# Altium footprint library std-smt.PcbLib: 52 footprints (part 1 of 4)
Each footprint in its own frame and in the unit in brackets; x right, y up, seen from the top. Pads: shape width x height; smd on the part's side, far side on the other; paste and mask are expansions set on the pad; w line width, h text height; cw(c..) or ccw(c..) is an arc to the next point about the centre after c.
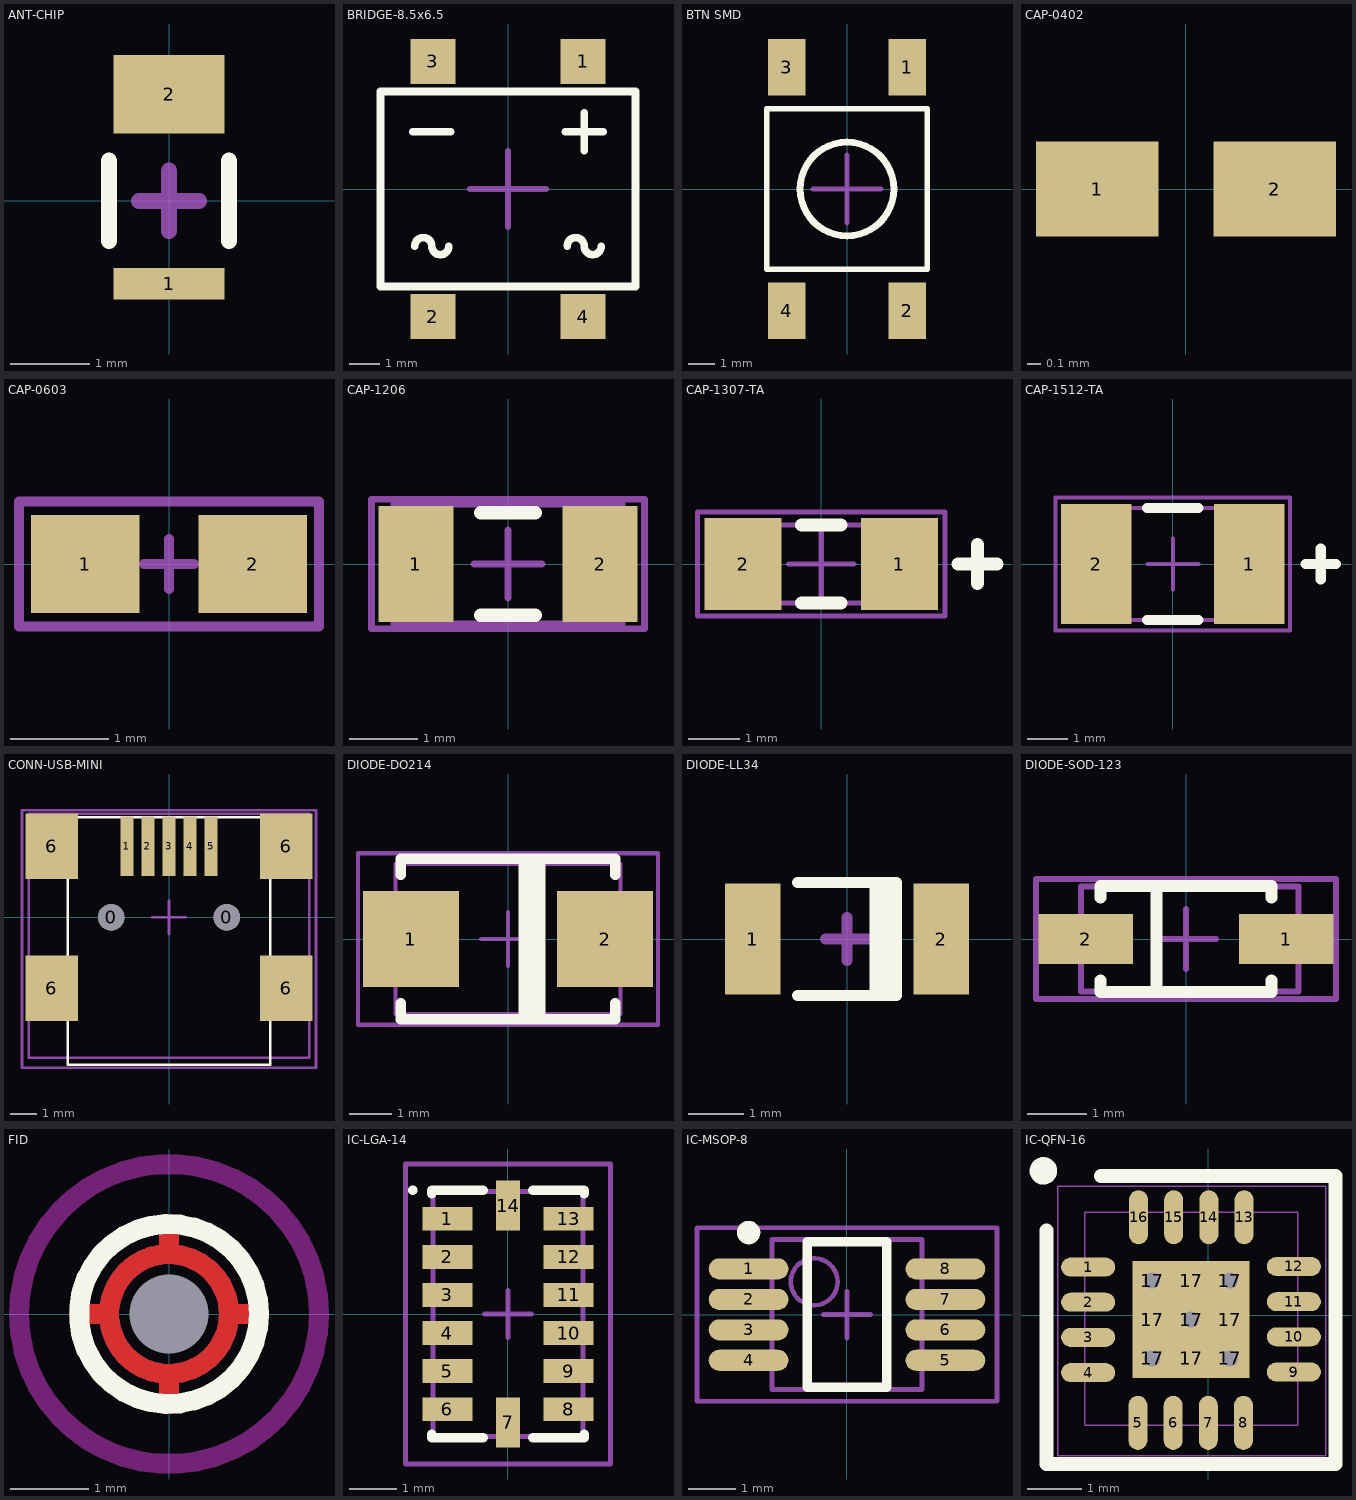
[diagram p0: the footprints below, top view; thin cyan lines are the x and y axes]

## ANT-CHIP [mm] "Antenna, 2012, 2 leads"
height 1
pads (2):
  rect 1.4x0.4 smd: 1(0,-1.05)
  rect 1.4x1 smd: 2(0,1.35)
Top Overlay:
  lines w0.203: -0.762,-0.508 -0.762,0.508 ; 0.762,-0.508 0.762,0.508
Mechanical 15:
  lines w0.203: -0.381,0 0.381,0 ; 0,-0.381 0,0.381
3D body "2012-antenna.step": height 0.6, standoff 0, extent -0.625,-1 0.625,1

## BRIDGE-8.5x6.5 [mm] "Bridge rectifier, SMD; body 8.5 x 6.5 mm; leads 5 mm pitch"
height 3.3
pads (4):
  rect 1.5x1.5 smd: 1(2.5,4.25) 2(-2.5,-4.25) 3(-2.5,4.25) 4(2.5,-4.25)
Top Overlay:
  lines w0.254: -3.175,1.905 -1.905,1.905 ; -3.108,-1.905 cw(c-2.824,-1.905) -2.54,-1.905 ccw(c-2.256,-1.905) -1.972,-1.905 ; 1.905,1.905 3.175,1.905 ; 1.972,-1.905 cw(c2.256,-1.905) 2.54,-1.905 ccw(c2.824,-1.905) 3.108,-1.905 ; 2.54,1.27 2.54,2.54 ; -4.25,-3.25 -4.25,3.25 4.25,3.25 4.25,-3.25 -4.25,-3.25
Mechanical 15:
  lines w0.203: -1.27,0 1.27,0 ; 0,-1.27 0,1.27
3D body "SDIP.step": height 3.63, standoff 0, extent -4.258,-5.004 4.242,4.996

## BTN SMD [mm] "Pushbutton, NO, SMD"
height 3.5
pads (4):
  rect 1.4x2.1 smd: 1(2.25,4.55) 2(2.25,-4.55) 3(-2.25,4.55) 4(-2.25,-4.55)
Top Overlay:
  circle w0.254: c0,0 r1.75
  lines w0.203: -3,-3 -3,3 3,3 3,-3 -3,-3
Mechanical 15:
  lines w0.203: -1.27,0 1.27,0 ; 0,-1.27 0,1.27
3D body "BTN.step": height 4.44, standoff -0.1, extent -3,-5 3,5

## CAP-0402 [mm] "Capacitor, SMD, 0402"
height 0.508
pads (2):
  rect 0.9x0.7 smd: 1(-0.65,0) 2(0.65,0)
3D body "0402-cap.step": height 0.55, standoff 0, extent -0.5,-0.25 0.5,0.25

## CAP-0603 [mm] "SMD capacitor, 0603"
height 1.397
pads (2):
  rect 1.1x1 smd: 1(-0.85,0) 2(0.85,0)
Mechanical 15:
  lines w0.1: -0.254,0 0.254,0 ; 0,-0.254 0,0.254 ; -1.524,-0.635 -1.524,0.635 1.524,0.635 1.524,-0.635 -1.524,-0.635
3D body "0603-cap.step": height 0.86, standoff 0, extent -0.8,-0.4 0.8,0.4

## CAP-1206 [mm] "SMD capacitor, 1206"
height 0.635
pads (2):
  rect 1.1x1.7 smd: 1(-1.35,0) 2(1.35,0)
Top Overlay:
  lines w0.2: -0.4,-0.75 0.4,-0.75 ; -0.4,0.75 0.4,0.75
Mechanical 13:
  lines w0.1: -1.675,-0.875 -1.675,0.875 1.675,0.875 1.675,-0.875 -1.675,-0.875
Mechanical 15:
  lines w0.1: -0.5,0 0.5,0 ; 0,-0.5 0,0.5 ; -2,-0.95 -2,0.95 2,0.95 2,-0.95 -2,-0.95
3D body "1206-cap.step": height 1, standoff 0, extent -1.6,-0.8 1.6,0.8

## CAP-1307-TA [mm] "SMD Capacitor, 1307, Tantalum"
height 2
pads (2):
  rect 1.5x1.8 smd: 1(1.524,0) 2(-1.524,0)
Top Overlay:
  lines w0.254: -0.381,-0.762 0.381,-0.762 ; -0.381,0.762 0.381,0.762 ; 2.667,0 3.429,0 ; 3.048,-0.381 3.048,0.381
Mechanical 13:
  lines w0.1: -1.651,-0.762 -1.651,0.762 1.651,0.762 1.651,-0.762 -1.651,-0.762
Mechanical 15:
  lines w0.1: -0.635,0 0.635,0 ; 0,-0.635 0,0.635 ; -2.413,-1.016 -2.413,1.016 2.413,1.016 2.413,-1.016 -2.413,-1.016
3D body "User Library-A Case SMT Capacitor.step": height 1.77, standoff 0.17, extent -1.587,-0.814 1.587,0.786

## CAP-1512-TA [mm] "SMD Capacitor, 1512, Tantalum"
height 2
pads (2):
  rect 1.75x3 smd: 1(1.905,0) 2(-1.905,0)
Top Overlay:
  lines w0.254: -0.635,-1.397 0.635,-1.397 ; -0.635,1.397 0.635,1.397 ; 3.302,0 4.064,0 ; 3.683,-0.381 3.683,0.381
Mechanical 13:
  lines w0.1: -1.778,-1.397 -1.778,1.397 1.778,1.397 1.778,-1.397 -1.778,-1.397
Mechanical 15:
  lines w0.1: -0.635,0 0.635,0 ; 0,-0.635 0,0.635 ; -2.921,-1.651 -2.921,1.651 2.921,1.651 2.921,-1.651 -2.921,-1.651
3D body "User Library-cap_b.step": height 1.91, standoff 0, extent -1.746,-1.4 1.746,1.4

## CONN-USB-MINI [mm] "Connector, USB, B type, Mini"
height 2
pads (11):
  round 1 hole 1 unplated: 0(-2.2,0) 0(2.2,0)
  rect 0.5x2.25 smd: 1(-1.6,2.7) 2(-0.8,2.7) 3(0,2.7) 4(0.8,2.7) 5(1.6,2.7)
  rect 2x2.5 smd: 6(-4.45,-2.7) 6(-4.45,2.7) 6(4.45,-2.7) 6(4.45,2.7)
Top Overlay:
  lines w0.1: -3.85,-5.6 3.85,-5.6 3.85,3.8 -3.85,3.8 -3.85,-5.6
Mechanical 13:
  lines w0.1: -5.334,-5.334 -5.334,3.937 5.334,3.937 5.334,-5.334 -5.334,-5.334
Mechanical 15:
  lines w0.1: -0.635,0 0.635,0 ; 0,-0.635 0,0.635 ; -5.588,-5.715 -5.588,4.064 5.588,4.064 5.588,-5.715 -5.588,-5.715
3D body "User Library-USB_mini_B.step": height 3.95, standoff -1, extent -5.35,-5.265 5.35,3.935

## DIODE-DO214 [mil] "DO-214-AC/SMA; 2 C-Bend Leads; Body 5.3 x 2.6 mm, inc. leads (LxW)"
height 90.55
pads (2):
  rect 90x90 smd: 1(-90.55,0) 2(90.55,0)
Top Overlay:
  lines w10: -100,-60 -100,-75 100,-75 100,-60 ; -100,60 -100,75 100,75 100,60 ; 15,-75 15,75 ; 25,-75 25,75 ; 30,-70 30,75
Mechanical 13:
  lines w3.94: -105,-70 105,-70 105,70 -105,70 -105,-70
Mechanical 15:
  lines w3.94: -25,0 25,0 ; 0,-25 0,25 ; -140,-80 140,-80 140,80 -140,80 -140,-80
3D body "DO-214AA.step": height 90.75, standoff 0, extent -106.31,-70.88 106.29,70.86

## DIODE-LL34 [mm] "Diode, LL-34, 3.4 mm x 1.4 mm"
height 1.4
pads (2):
  rect 1x2 smd: 1(-1.7,0) 2(1.7,0)
Top Overlay:
  rectangle: 0.508,-1.016 0.889,1.016
  lines w0.203: -0.889,-1.016 0.889,-1.016 0.889,1.016 -0.889,1.016 ; 0.508,-1.016 0.508,1.016
Mechanical 15:
  lines w0.203: -0.381,0 0.381,0 ; 0,-0.381 0,0.381
3D body "LL-34.step": height 1.4, standoff 0, extent -1.7,-0.7 1.7,0.7

## DIODE-SOD-123 [mm] "Diode; SOD-123; 2 Leads; Body 2.7 x 1.6 mm"
height 1.35
pads (2):
  rect 1.6x0.85 smd: 1(1.7,0) 2(-1.7,0)
Top Overlay:
  lines w0.2: -1.45,-0.7 -1.45,-0.9 1.45,-0.9 1.45,-0.7 ; -1.45,0.7 -1.45,0.9 1.45,0.9 1.45,0.7 ; -0.5,-0.9 -0.5,0.9
Mechanical 13:
  lines w0.1: -1.778,-0.889 1.905,-0.889 1.905,0.889 -1.778,0.889 -1.778,-0.889
Mechanical 15:
  lines w0.1: -0.508,0 0.508,0 ; 0,-0.508 0,0.508 ; -2.54,-1.016 -2.54,1.016 2.54,1.016 2.54,-1.016 -2.54,-1.016
3D body "SOD-123.step": height 1.27, standoff 0, extent -1.778,-0.8 1.922,0.8

## FID [mm]
pads (1):
  round 0 hole 1 unplated: 0(0,0)
Top Layer:
  circle w0.254: c0,0 r0.762
  lines w0.254: -1.143,0 -0.762,0 ; 0,-1.143 0,-0.762 ; 0,0.762 0,1.143 ; 0.762,0 1.143,0
Bottom Layer:
  circle w0.254: c0,0 r0.762
  lines w0.254: -1.143,0 -0.762,0 ; 0,-1.143 0,-0.762 ; 0,0.762 0,1.143 ; 0.762,0 1.143,0
Top Overlay:
  circle w0.254: c0,0 r1.143
Bottom Overlay:
  circle w0.254: c0,0 r1.143
Top Paste:
  circle w0.254: c0,0 r0.762
Bottom Paste:
  circle w0.254: c0,0 r0.762
Top Solder:
  circle w0.254: c0,0 r0.762
  circle w0.254: c0,0 r1.524
  lines w0.254: -1.016,-1.016 -0.635,-0.635 ; -1.016,1.016 -0.635,0.635 ; 0.635,-0.635 1.016,-1.016 ; 0.635,0.635 1.016,1.016
Bottom Solder:
  circle w0.254: c0,0 r1.524
  circle w0.254: c0,0 r0.762
  lines w0.254: -1.016,-1.016 -0.635,-0.635 ; -1.016,1.016 -0.635,0.635 ; 0.635,-0.635 1.016,-1.016 ; 0.635,0.635 1.016,1.016
Keep-Out Layer:
  circle w0.254: c0,0 r1.905

## IC-LGA-14 [mm] "LGA, 14-Leads, Body 3x5x0.92mm, Pitch 0.8mm, IPC Medium Density"
height 1
pads (14):
  rect 1.05x0.5 smd: 1(-1.275,2) 2(-1.275,1.2) 3(-1.275,0.4) 4(-1.275,-0.4) 5(-1.275,-1.2) 6(-1.275,-2) 8(1.275,-2) 9(1.275,-1.2) 10(1.275,-0.4) 11(1.275,0.4) 12(1.275,1.2) 13(1.275,2)
  rect 0.5x1.05 smd: 7(0,-2.275) 14(0,2.275)
Top Overlay:
  circle w0.1: c-2,2.6 r0.05
  lines w0.2: -1.6,-2.525 -1.6,-2.6 -0.525,-2.6 ; -1.6,2.525 -1.6,2.6 -0.525,2.6 ; 0.525,-2.6 1.6,-2.6 1.6,-2.525 ; 0.525,2.6 1.6,2.6 1.6,2.525
Mechanical 13:
  lines w0.1: -1.575,-2.575 -1.575,2.575 1.575,2.575 1.575,-2.575 -1.575,-2.575
Mechanical 15:
  lines w0.1: -0.5,0 0.5,0 ; 0,-0.5 0,0.5 ; -2.15,-3.15 -2.15,3.15 2.15,3.15 2.15,-3.15 -2.15,-3.15
3D body "LGA-14.step": height 1.03, standoff -0.4, extent -1.506,-2.468 1.494,2.532

## IC-MSOP-8 [mm] "TSOP, 8-Leads, Body 3x3mm, Pitch 0.65mm"
height 1.1
pads (8):
  oval 1.7x0.45 smd: 1(-2.1,0.975) 2(-2.1,0.325) 3(-2.1,-0.325) 4(-2.1,-0.975) 5(2.1,-0.975) 6(2.1,-0.325) 7(2.1,0.325) 8(2.1,0.975)
Top Overlay:
  circle w0.25: c-2.1,1.75 r0.125
  lines w0.2: -0.85,-1.55 -0.85,1.55 0.85,1.55 0.85,-1.55 -0.85,-1.55
Mechanical 13:
  circle w0.1: c-0.7,0.7 r0.5
  lines w0.1: -1.6,-1.6 -1.6,1.6 1.6,1.6 1.6,-1.6 -1.6,-1.6
Mechanical 15:
  lines w0.1: -0.5,0 0.5,0 ; 0,-0.5 0,0.5 ; -3.2,-1.85 -3.2,1.85 3.2,1.85 3.2,-1.85 -3.2,-1.85
3D body "MSOP-8.step": height 1.15, standoff 0, extent -2.45,-1.5 2.45,1.5

## IC-QFN-16 [mm] "QFN-16, 4x4 mm leadless"
height 0.102
pads (25):
  oval 1x0.35 smd paste+0.001 mask+0.14: 1(-2.22,0.89) 2(-2.22,0.24) 3(-2.22,-0.41) 4(-2.22,-1.06) 9(1.58,-1.05) 10(1.58,-0.4) 11(1.58,0.25) 12(1.58,0.9)
  oval 0.35x1 smd paste+0.001 mask+0.14: 5(-1.3,-1.99) 6(-0.65,-1.99) 7(0,-1.99) 8(0.65,-1.99) 13(0.66,1.81) 14(0.01,1.81) 15(-0.64,1.81) 16(-1.29,1.81)
  rect 0.72x0.72 hole 0.3 paste+0 mask+0.14: 17(-1.04,-0.8) 17(-1.04,0.64) 17(-0.32,-0.08) 17(0.4,-0.8) 17(0.4,0.64)
  rect 0.72x0.72 smd paste-0.72 mask+0.14: 17(-1.04,-0.08) 17(-0.32,-0.8) 17(-0.32,0.64) 17(0.4,-0.08)
Top Overlay:
  circle w0.254: c-3.048,2.667 r0.127
  lines w0.254: -2.99,1.57 -2.99,-2.75 2.35,-2.75 2.35,2.57 -1.99,2.57
Top Paste:
  region: -0.17,-1.13 0.73,-1.13 0.73,-0.23 -0.17,-0.23
  region: -0.17,0.07 0.73,0.07 0.73,0.97 -0.17,0.97
  region: -1.37,0.07 -0.47,0.07 -0.47,0.97 -1.37,0.97
  region: -1.37,-1.13 -0.47,-1.13 -0.47,-0.23 -1.37,-0.23
Mechanical 1:
  lines w0.025: -3,1.57 -3,-2.75 2.34,-2.75 2.34,2.57 -1.99,2.57
Mechanical 13:
  lines w0.025: -2.286,-2.032 1.651,-2.032 1.651,1.905 -2.286,1.905 -2.286,-2.032
Mechanical 15:
  lines w0.025: -2.782,-2.601 -2.782,2.382 2.168,2.382 2.168,-2.601 -2.782,-2.601
3D body "User Library-qfn16-4x4.step": height 0.92, standoff 0, extent -2.32,-2.08 1.68,1.92